# EAGLE library part LE_UW_S2LN (library Synapseware)
OSRAM OSTAR - Lighting plus high-output LED Features • Package: compact lightsource in multi chip SMT technology with silicone lens • Feature of the device: outstanding brightness and luminance due to pure surface emission and high chip packing density • Typical Luminous Flux: 425 lm at 350 mA • Color temperature: 6000 K - 6500 K • Typ. color rendering index: 70 • Viewing angle: 140° • Soldering methods: reflow soldering • ESD-withstand voltage: up to 2 kV acc. to JESD22-A114-D
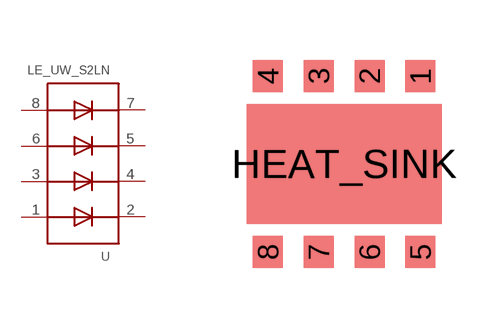
[diagram p1: symbol with the pads of OSRAM_4_LED; footprint OSRAM_4_LED]

Designator prefix -

## LE_UW_S2LN  [OSRAM_4_LED]
1  P$1
2  P$2
3  P$3
4  P$4
5  P$5
6  P$6
7  P$7
8  P$8

## Footprint OSRAM_4_LED (pad centres in mm)
smd 0.75 x 0.8: 1 1.905,2.205; 2 0.635,2.205; 3 -0.635,2.205; 4 -1.905,2.205; 5 1.905,-2.205; 6 0.635,-2.205; 7 -0.635,-2.205; 8 -1.905,-2.205
smd 4.88 x 3.01: HEAT_SINK 0,0